# Altium integrated library Connectors - Terminal Blocks.IntLib: 1 symbol
Pins are listed as number, name and electrical type; pins without a type are passive.

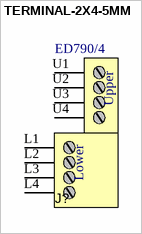
[diagram p0: symbol TERMINAL-2X4-5MM]

## TERMINAL-2X4-5MM
designator J?, comment ED790/4
Terminal Block; Dual level, 8 pin (4 pin/level); screw type terminal block.  5.00mm pitch, Rising cage clamp; Manufacturer: On-Shore Technologies; Pitch: 0.197" (5.00mm); Rows: 2; Mates With (Wire housing): Wire or crimp ferrules; Connector Height: 1237 mil; Mounting Type: Through Hole; PackageDescription: Terminal Block; Dual level, 8 pin (4 pin/level); screw type terminal block.  5.00mm pitch; Package Reference: ED790-4; Pins: 8; Mates With (PCB): N/A; Max wire size: *; Supplier 1: Digi-Key; Supplier Part Number 1: ED1580-ND; Part Number: ED790/4
footprint ED790-4 (Terminal block, 5mm pitch, 2 row, 4 position)
pins: L1, L2, L3, L4, U1, U2, U3, U4
text: Upper; Lower